# Altium schematic symbol library SCH - MCU - NUVOTON - NUVOTON M058SFAN.SchLib: 1 symbol
Pins are listed as number, name and electrical type; pins without a type are passive.

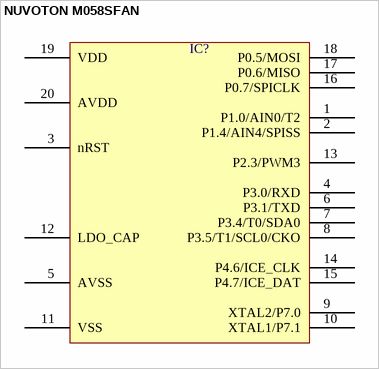
[diagram p0: symbol NUVOTON M058SFAN]

## NUVOTON M058SFAN
designator IC?  (value not drawn)
pins: 1 P1.0/AIN0/T2, 2 P1.4/AIN4/SPISS, 3 nRST, 4 P3.0/RXD, 5 AVSS, 6 P3.1/TXD, 7 P3.4/T0/SDA0, 8 P3.5/T1/SCL0/CKO, 9 XTAL2/P7.0, 10 XTAL1/P7.1, 11 VSS, 12 LDO_CAP, 13 P2.3/PWM3, 14 P4.6/ICE_CLK, 15 P4.7/ICE_DAT, 16 P0.7/SPICLK, 17 P0.6/MISO, 18 P0.5/MOSI, 19 VDD, 20 AVDD